# Altium schematic symbol library aKaReZa75-Connector.SchLib: 134 symbols (part 2 of 2)
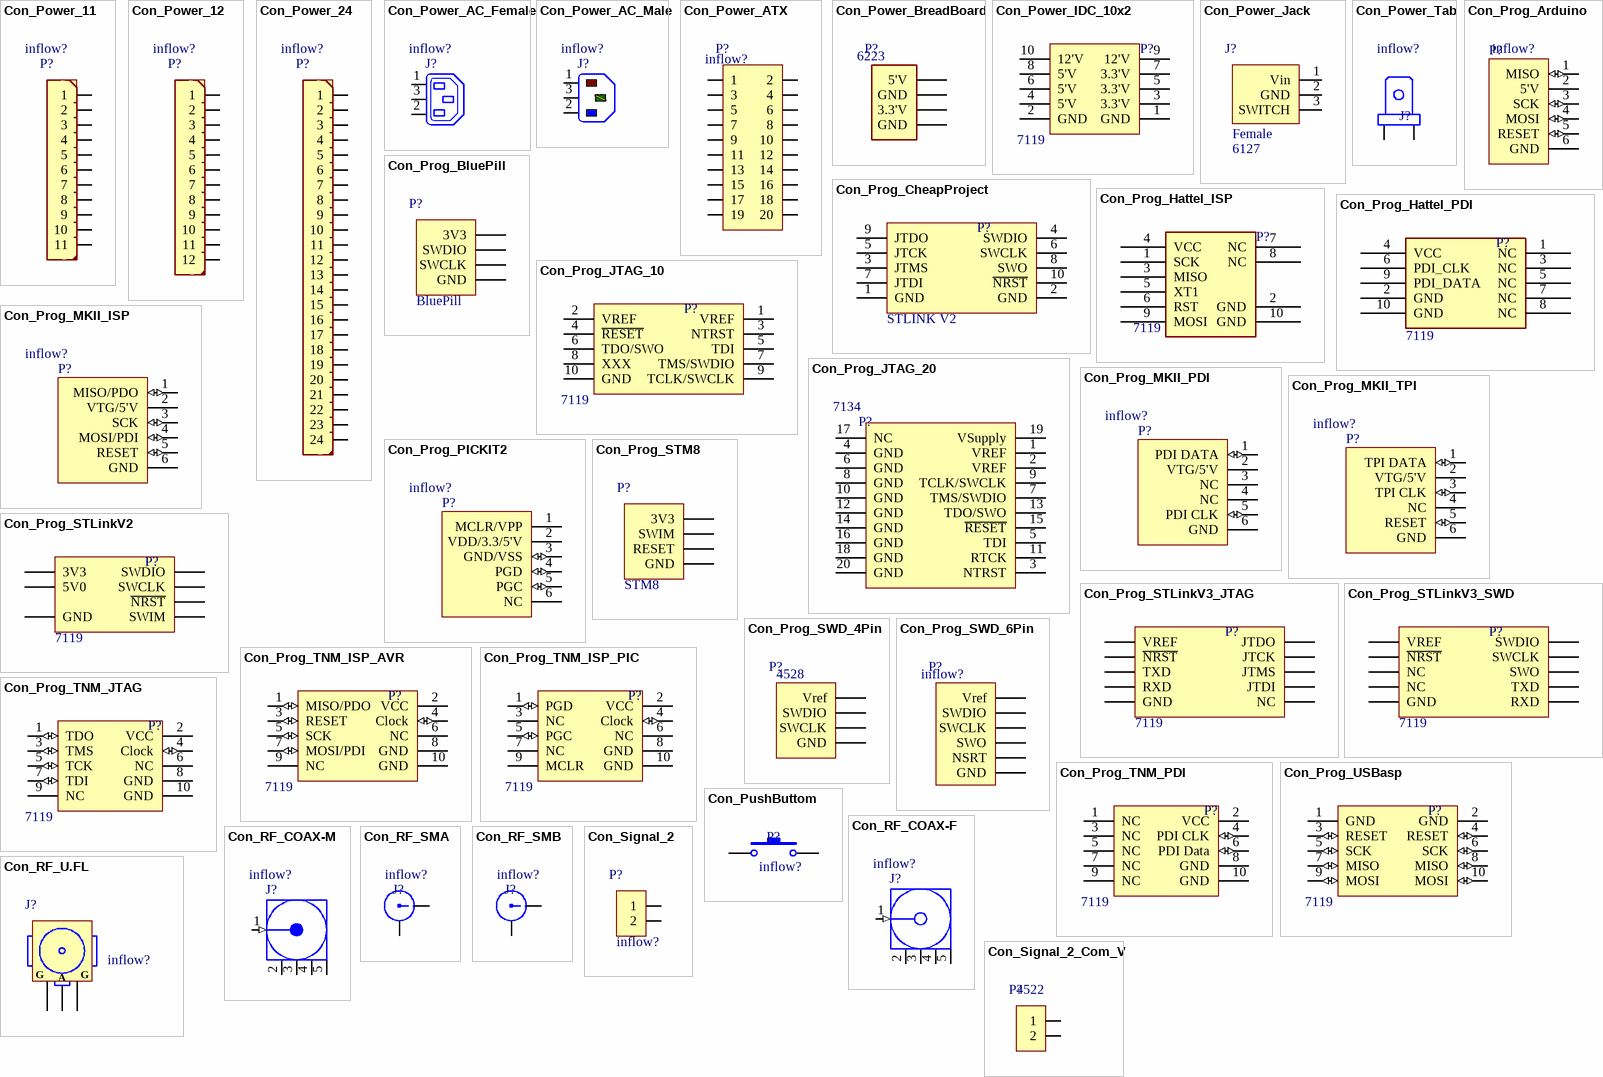
[diagram p4: symbols Con_Power_11 to Con_Signal_2_Com_V]

## Con_Prog_MKII_TPI
designator P?, comment Inflow: inflow?  (hidden comment: 3x2)
6 Pin Standard TPI Header For MKII; Rating: Rating?; Validation: NT; Value: 3x2; Package: Package?; Type: Type?
footprint IDC_2X3
pins: 1 TPI DATA (io), 2 VTG/5'V, 3 TPI CLK (io), 4 NC, 5 RESET (io), 6 GND

## Con_Prog_PICKIT2
designator P?, comment Inflow: inflow?  (hidden comment: 3x2)
6 Pin Standard ISP Header For PICKitII; Rating: Rating?; Validation: NT; Value: 3x2; Package: Package?; Type: Type?
footprint SILFKV6S
pins: 1 MCLR/VPP, 2 VDD/3.3/5'V, 3 GND/VSS (io), 4 PGD (io), 5 PGC (io), 6 NC

## Con_Prog_STLinkV2
designator P?, comment Inflow: 7119  (hidden comment: STLinkV2)
STLINK-V2 debugger/programmer IDC probe for STM32 microcontrollers; Rating: Rating?; Validation: NT; Value: STLinkV2; Package: Package?; Type: SWD
footprint 918510x324 (Connector; IDC, Low Profile Male Header, Thru-Hole; 10 Position; Vertical; Pitch 2.54 mm; Body 20.32 x 9.2 x 9.45 mm (LxWxH))
footprint 918510x323 (Connector; IDC, Low Profile Male Header, Thru-Hole; 10 Position; Right Angle; Pitch 2.54 mm; Body 20.32 x 8.9 x 9.2 mm (LxWxH))
footprint IDC2.54-10PIN (Connector; IDC, Low Profile Male Header, Thru-Hole; 10 Position; Vertical; Pitch 2.54 mm; 20.32 x 9.2 x 9.45 mm (LxWxH) DESIGNER : ABBAS BASEREH)
footprint IDC2.54-10PIN - CROSS (Connector; IDC, Low Profile Male Header, Thru-Hole; 10 Position; Vertical; Pitch 2.54 mm; 20.32 x 9.2 x 9.45 mm (LxWxH) DESIGNER : ABBAS BASEREH)
footprint IDC2.54-H10C (Connector; IDC, Low Profile Male Header, Thru-Hole; 10 Position; Right Angle; Pitch 2.54 mm; Body 20.32 x 8.9 x 9.2 mm (LxWxH))
pins: 1 ~{NRST}, 2 SWCLK, 3 SWIM "Pull_Down_10K'Ohm", 4 SWDIO, 5,6 GND, 7,8 3V3 (power), 9,10 5V0 (power)

## Con_Prog_STLinkV3_JTAG
designator P?, comment Inflow: 7119  (hidden comment: STLinkV3-minie)
STLINK-V3MINIE debugger/programmer IDC probe for STM32 microcontrollers; Rating: Rating?; Validation: NT; Value: STLinkV3-minie; Package: Package?; Type: JTAG
footprint 918510x324 (Connector; IDC, Low Profile Male Header, Thru-Hole; 10 Position; Vertical; Pitch 2.54 mm; Body 20.32 x 9.2 x 9.45 mm (LxWxH))
footprint 918510x323 (Connector; IDC, Low Profile Male Header, Thru-Hole; 10 Position; Right Angle; Pitch 2.54 mm; Body 20.32 x 8.9 x 9.2 mm (LxWxH))
footprint IDC2.54-10PIN (Connector; IDC, Low Profile Male Header, Thru-Hole; 10 Position; Vertical; Pitch 2.54 mm; 20.32 x 9.2 x 9.45 mm (LxWxH) DESIGNER : ABBAS BASEREH)
footprint IDC2.54-10PIN - CROSS (Connector; IDC, Low Profile Male Header, Thru-Hole; 10 Position; Vertical; Pitch 2.54 mm; 20.32 x 9.2 x 9.45 mm (LxWxH) DESIGNER : ABBAS BASEREH)
footprint IDC2.54-H10C (Connector; IDC, Low Profile Male Header, Thru-Hole; 10 Position; Right Angle; Pitch 2.54 mm; Body 20.32 x 8.9 x 9.2 mm (LxWxH))
pins: 1 NC "Pull_Down_10K'Ohm", 2 GND, 3 JTDI, 4 TXD, 5 JTMS "Pull_Down_10K'Ohm", 6 RXD, 7 JTCK, 8 ~{NRST}, 9 JTDO, 10 VREF

## Con_Prog_STLinkV3_SWD
designator P?, comment Inflow: 7119  (hidden comment: STLinkV3-minie)
STLINK-V3MINIE debugger/programmer IDC probe for STM32 microcontrollers; Rating: Rating?; Validation: Valid; Value: STLinkV3-minie; Package: 10p; Type: SWD
footprint 918510x324 (Connector; IDC, Low Profile Male Header, Thru-Hole; 10 Position; Vertical; Pitch 2.54 mm; Body 20.32 x 9.2 x 9.45 mm (LxWxH))
footprint 918510x323 (Connector; IDC, Low Profile Male Header, Thru-Hole; 10 Position; Right Angle; Pitch 2.54 mm; Body 20.32 x 8.9 x 9.2 mm (LxWxH))
footprint IDC2.54-10PIN (Connector; IDC, Low Profile Male Header, Thru-Hole; 10 Position; Vertical; Pitch 2.54 mm; 20.32 x 9.2 x 9.45 mm (LxWxH) DESIGNER : ABBAS BASEREH)
footprint IDC2.54-10PIN - CROSS (Connector; IDC, Low Profile Male Header, Thru-Hole; 10 Position; Vertical; Pitch 2.54 mm; 20.32 x 9.2 x 9.45 mm (LxWxH) DESIGNER : ABBAS BASEREH)
footprint IDC2.54-H10C (Connector; IDC, Low Profile Male Header, Thru-Hole; 10 Position; Right Angle; Pitch 2.54 mm; Body 20.32 x 8.9 x 9.2 mm (LxWxH))
footprint HDR_THT_5x2F_2.54mm_RA (Socket Header, Pitch 2.54 mm, THT, Angled, dual row, 10p)
pins: 1 NC "Pull_Down_10K'Ohm", 2 GND, 3 NC, 4 TXD, 5 SWDIO "Pull_Down_10K'Ohm", 6 RXD, 7 SWCLK, 8 ~{NRST}, 9 SWO, 10 VREF

## Con_Prog_STM8
designator P?, comment STM8
STM8 Programmer Connector; Rating: Rating?; Validation: NT; Inflow: 4528; Package: Package?; Type: Type?; Value: STM8
footprint MOLEX KK 0022272041
footprint JST XH B4B-XH-A
footprint JST XH B4B-XH-A - RIGHT
footprint HDR 1X4 (Connector; Header; 4 Position)
footprint Molex sda-70553-4pin (SL Right Angle Header W/LAtch & Trip-Pegs 2.54mm Centres)
pins: 1 3V3, 2 SWIM, 3 GND, 4 RESET

## Con_Prog_SWD_4Pin
designator P?, comment Inflow: 4528  (hidden comment: 4'Pin)
Serial Wire 4'pin; Rating: Rating?; Validation: NT; Value: 4'Pin; Package: Package?; Type: Type?
footprint MOLEX KK 0022272041
footprint JST XH B4B-XH-A
footprint JST XH B4B-XH-A - RIGHT
footprint HDR 1X4 (Connector; Header; 4 Position)
footprint Molex sda-70553-4pin (SL Right Angle Header W/LAtch & Trip-Pegs 2.54mm Centres)
pins: 1 Vref, 2 SWDIO, 3 SWCLK, 4 GND

## Con_Prog_SWD_6Pin
designator P?, comment Inflow: inflow?  (hidden comment: 6'Pin)
Serial Wire 6'pin; Rating: Rating?; Validation: NT; Value: 6'Pin; Package: Package?; Type: Type?
footprint JST XH B6B-XH-A
footprint JST XH B6B-XH-A - RIGHT
footprint HDR 1X6 (Connector; Header; 6 Position)
footprint MOLEX KK 0022272061
pins: 1 Vref, 2 SWDIO, 3 SWCLK, 4 GND, 5 SWO, 6 NSRT

## Con_Prog_TNM_ISP_AVR
designator P?, comment Inflow: 7119  (hidden comment: JTAG, 10'Pin)
10 Pin Standard ISP Header For TNM; Rating: Rating?; Validation: Valid; Value: JTAG, 10'Pin; Package: Package?; Type: Type?
footprint 918510x324 (Connector; IDC, Low Profile Male Header, Thru-Hole; 10 Position; Vertical; Pitch 2.54 mm; Body 20.32 x 9.2 x 9.45 mm (LxWxH))
footprint 918510x323 (Connector; IDC, Low Profile Male Header, Thru-Hole; 10 Position; Right Angle; Pitch 2.54 mm; Body 20.32 x 8.9 x 9.2 mm (LxWxH))
footprint IDC2.54-10PIN (Connector; IDC, Low Profile Male Header, Thru-Hole; 10 Position; Vertical; Pitch 2.54 mm; 20.32 x 9.2 x 9.45 mm (LxWxH) DESIGNER : ABBAS BASEREH)
footprint IDC2.54-10PIN - CROSS (Connector; IDC, Low Profile Male Header, Thru-Hole; 10 Position; Vertical; Pitch 2.54 mm; 20.32 x 9.2 x 9.45 mm (LxWxH) DESIGNER : ABBAS BASEREH)
footprint IDC2.54-10PIN WITH CABLE (Connector; IDC, Low Profile Male Header, Thru-Hole; 10 Position; Vertical; Pitch 2.54 mm; 20.32 x 9.2 x 9.45 mm (LxWxH) DESIGNER : ABBAS BASEREH)
footprint IDC2.54-H10C (Connector; IDC, Low Profile Male Header, Thru-Hole; 10 Position; Right Angle; Pitch 2.54 mm; Body 20.32 x 8.9 x 9.2 mm (LxWxH))
pins: 1 MISO/PDO (io), 2 VCC (power) "TNM 5000", 3 RESET (io), 4 Clock (io) "TNM 5000", 5 SCK (io), 6 NC, 7 MOSI/PDI (io), 8 GND (power), 9 NC, 10 GND (power)

## Con_Prog_TNM_ISP_PIC
designator P?, comment Inflow: 7119  (hidden comment: JTAG, 10'Pin)
10 Pin Standard ISP Header For TNM; Rating: Rating?; Validation: NT; Value: JTAG, 10'Pin; Package: Package?; Type: Type?
footprint 918510x324 (Connector; IDC, Low Profile Male Header, Thru-Hole; 10 Position; Vertical; Pitch 2.54 mm; Body 20.32 x 9.2 x 9.45 mm (LxWxH))
footprint 918510x323 (Connector; IDC, Low Profile Male Header, Thru-Hole; 10 Position; Right Angle; Pitch 2.54 mm; Body 20.32 x 8.9 x 9.2 mm (LxWxH))
footprint IDC2.54-10PIN (Connector; IDC, Low Profile Male Header, Thru-Hole; 10 Position; Vertical; Pitch 2.54 mm; 20.32 x 9.2 x 9.45 mm (LxWxH) DESIGNER : ABBAS BASEREH)
footprint IDC2.54-10PIN - CROSS (Connector; IDC, Low Profile Male Header, Thru-Hole; 10 Position; Vertical; Pitch 2.54 mm; 20.32 x 9.2 x 9.45 mm (LxWxH) DESIGNER : ABBAS BASEREH)
footprint IDC2.54-10PIN WITH CABLE (Connector; IDC, Low Profile Male Header, Thru-Hole; 10 Position; Vertical; Pitch 2.54 mm; 20.32 x 9.2 x 9.45 mm (LxWxH) DESIGNER : ABBAS BASEREH)
footprint IDC2.54-H10C (Connector; IDC, Low Profile Male Header, Thru-Hole; 10 Position; Right Angle; Pitch 2.54 mm; Body 20.32 x 8.9 x 9.2 mm (LxWxH))
pins: 1 PGD (io), 2 VCC (power) "TNM 5000", 3 NC, 4 Clock (io) "TNM 5000", 5 PGC (io), 6 NC, 7 NC, 8 GND (power), 9 MCLR, 10 GND (power)

## Con_Prog_TNM_JTAG
designator P?, comment Inflow: 7119  (hidden comment: JTAG, 10'Pin)
10 Pin Standard JTAG Header For TNM; Rating: Rating?; Validation: NT; Value: JTAG, 10'Pin; Package: Package?; Type: Type?
footprint 918510x324 (Connector; IDC, Low Profile Male Header, Thru-Hole; 10 Position; Vertical; Pitch 2.54 mm; Body 20.32 x 9.2 x 9.45 mm (LxWxH))
footprint 918510x323 (Connector; IDC, Low Profile Male Header, Thru-Hole; 10 Position; Right Angle; Pitch 2.54 mm; Body 20.32 x 8.9 x 9.2 mm (LxWxH))
footprint IDC2.54-10PIN (Connector; IDC, Low Profile Male Header, Thru-Hole; 10 Position; Vertical; Pitch 2.54 mm; 20.32 x 9.2 x 9.45 mm (LxWxH) DESIGNER : ABBAS BASEREH)
footprint IDC2.54-10PIN - CROSS (Connector; IDC, Low Profile Male Header, Thru-Hole; 10 Position; Vertical; Pitch 2.54 mm; 20.32 x 9.2 x 9.45 mm (LxWxH) DESIGNER : ABBAS BASEREH)
footprint IDC2.54-10PIN WITH CABLE (Connector; IDC, Low Profile Male Header, Thru-Hole; 10 Position; Vertical; Pitch 2.54 mm; 20.32 x 9.2 x 9.45 mm (LxWxH) DESIGNER : ABBAS BASEREH)
footprint IDC2.54-H10C (Connector; IDC, Low Profile Male Header, Thru-Hole; 10 Position; Right Angle; Pitch 2.54 mm; Body 20.32 x 8.9 x 9.2 mm (LxWxH))
pins: 1 TDO (io), 2 VCC (power) "TNM 5000", 3 TMS (io), 4 Clock (io) "TNM 5000", 5 TCK (io), 6 NC, 7 TDI (io), 8 GND (power), 9 NC, 10 GND (power)

## Con_Prog_TNM_PDI
designator P?, comment Inflow: 7119  (hidden comment: JTAG, 10'Pin)
10 Pin Standard ISP Header For TNM Only TNM 5000; Rating: Rating?; Validation: NT; Value: JTAG, 10'Pin; Package: Package?; Type: Type?
footprint 918510x324 (Connector; IDC, Low Profile Male Header, Thru-Hole; 10 Position; Vertical; Pitch 2.54 mm; Body 20.32 x 9.2 x 9.45 mm (LxWxH))
footprint 918510x323 (Connector; IDC, Low Profile Male Header, Thru-Hole; 10 Position; Right Angle; Pitch 2.54 mm; Body 20.32 x 8.9 x 9.2 mm (LxWxH))
footprint IDC2.54-10PIN (Connector; IDC, Low Profile Male Header, Thru-Hole; 10 Position; Vertical; Pitch 2.54 mm; 20.32 x 9.2 x 9.45 mm (LxWxH) DESIGNER : ABBAS BASEREH)
footprint IDC2.54-10PIN - CROSS (Connector; IDC, Low Profile Male Header, Thru-Hole; 10 Position; Vertical; Pitch 2.54 mm; 20.32 x 9.2 x 9.45 mm (LxWxH) DESIGNER : ABBAS BASEREH)
footprint IDC2.54-10PIN WITH CABLE (Connector; IDC, Low Profile Male Header, Thru-Hole; 10 Position; Vertical; Pitch 2.54 mm; 20.32 x 9.2 x 9.45 mm (LxWxH) DESIGNER : ABBAS BASEREH)
footprint IDC2.54-H10C (Connector; IDC, Low Profile Male Header, Thru-Hole; 10 Position; Right Angle; Pitch 2.54 mm; Body 20.32 x 8.9 x 9.2 mm (LxWxH))
pins: 1 NC, 2 VCC (power) "TNM 5000", 3 NC, 4 PDI CLK (io) "TNM 5000", 5 NC, 6 PDI Data (io) "TNM 5000", 7 NC, 8 GND (power), 9 NC, 10 GND (power)

## Con_Prog_USBasp
designator P?, comment Inflow: 7119  (hidden comment: JTAG, 10'Pin)
10 Pin Standard ISP Header For TNM; Rating: Rating?; Validation: Valid; Value: JTAG, 10'Pin; Package: Package?; Type: Type?
footprint 918510x324 (Connector; IDC, Low Profile Male Header, Thru-Hole; 10 Position; Vertical; Pitch 2.54 mm; Body 20.32 x 9.2 x 9.45 mm (LxWxH))
footprint 918510x323 (Connector; IDC, Low Profile Male Header, Thru-Hole; 10 Position; Right Angle; Pitch 2.54 mm; Body 20.32 x 8.9 x 9.2 mm (LxWxH))
footprint IDC2.54-10PIN (Connector; IDC, Low Profile Male Header, Thru-Hole; 10 Position; Vertical; Pitch 2.54 mm; 20.32 x 9.2 x 9.45 mm (LxWxH) DESIGNER : ABBAS BASEREH)
footprint IDC2.54-10PIN - CROSS (Connector; IDC, Low Profile Male Header, Thru-Hole; 10 Position; Vertical; Pitch 2.54 mm; 20.32 x 9.2 x 9.45 mm (LxWxH) DESIGNER : ABBAS BASEREH)
footprint IDC2.54-10PIN WITH CABLE (Connector; IDC, Low Profile Male Header, Thru-Hole; 10 Position; Vertical; Pitch 2.54 mm; 20.32 x 9.2 x 9.45 mm (LxWxH) DESIGNER : ABBAS BASEREH)
footprint IDC2.54-H10C (Connector; IDC, Low Profile Male Header, Thru-Hole; 10 Position; Right Angle; Pitch 2.54 mm; Body 20.32 x 8.9 x 9.2 mm (LxWxH))
pins: 1 GND, 2 GND, 3 RESET (io), 4 RESET (io), 5 SCK (io), 6 SCK (io), 7 MISO (io), 8 MISO (io), 9 MOSI (io), 10 MOSI (io)

## Con_PushButtom
designator P?, comment Inflow: inflow?  (hidden comment: Value?)
PushBottom Connector 2'Pin; Rating: Rating?; Validation: Valid; Value: Value?; Type: PushButtom; Package: Dip
footprint MOLEX KK 0022272021
footprint JST XH B2B-XH-A
footprint JST XH B2B-XH-A - RIGHT
footprint HDR 1X2 (Connector; Header; 2 Position)
footprint Molex sda-70553-2pin (SL Right angle header with latch, 0.100 centres, SDA-70553)
footprint SMD 2PIN_CON
pins: 1, 2

## Con_RF_COAX-F
designator J?, comment Inflow: inflow?  (hidden comment: Female)
RF Coaxial PCB Connector, MCX; Thru-Hole, Right-Angle Mount Socket, Blunt Post Terminal, 50 Ohm Impedance; Rating: Rating?; Validation: NT; Value: Female; Package: Package?; Type: Type?
footprint MCX5.08-H5 (Connector; RF Coaxial, MCX, Thru-Hole; 5 Position; Right-Angle)
pins: 1 Signal (in) "Signal Pin", 2 GND (power), 3 GND (power), 4 GND (power), 5 GND (power)

## Con_RF_COAX-M
designator J?, comment Inflow: inflow?  (hidden comment: Male)
RF Coaxial PCB Connector, MMCX; Thru-Hole, Vertical Mount Plug,  50 Ohm Impedance; Rating: Rating?; Validation: NT; Value: Male; Package: Package?; Type: Type?
footprint MMCX2.54-V5 (Connector; RF Coaxial, MMCX, Thru-Hole; 5 Position; Vertical)
pins: 1 Signal (in) "Signal Pin", 2 GND (power), 3 GND (power), 4 GND (power), 5 GND (power)

## Con_RF_SMA
designator J?, comment Inflow: inflow?  (hidden comment: SMA)
SMA High Frequency Conector; Rating: Rating?; Validation: NT; Value: SMA; Package: Package?; Type: Type?
footprint DIP_CON_SMA-Vertical
footprint SMA
pins: 1, 2

## Con_RF_SMB
designator J?, comment Inflow: inflow?  (hidden comment: SMB)
SMB High Frequency Conector; Rating: Rating?; Validation: NT; Value: SMB; Package: Package?; Type: Type?
footprint DIP_CON_SMB-Vertical
pins: 1, 2

## Con_RF_U.FL
designator J?, comment Inflow: inflow?  (hidden comment: U.FL)
Rating: Rating?; Validation: Valid; Type: RF; Package: SMD; Value: U.FL
footprint IPEX-3x3mm (U.FL-R-SMT)
pins: 1 A, 2 G, 3 G

## Con_Signal_2
designator P?, comment Inflow: inflow?  (hidden comment: 2b)
Signal Connector 2'Pin; Rating: Rating?; Validation: Valid; Package: Dip; Type: Signal; Value: 2b
footprint MOLEX KK 0022272021
footprint JST XH B2B-XH-A
footprint JST XH B2B-XH-A - RIGHT
footprint HDR 1X2 (Connector; Header; 2 Position)
footprint Molex sda-70553-2pin (SL Right angle header with latch, 0.100 centres, SDA-70553)
pins: 1, 2

## Con_Signal_2_Com_V
designator P?, comment Inflow: 4522  (hidden comment: 2'Pin)
Communication signal connector 2'Pin; Rating: Rating?; Validation: Valid; Value: 2'Pin; Package: Package?; Type: Type?
footprint MOLEX KK 0022272021
pins: 1, 2

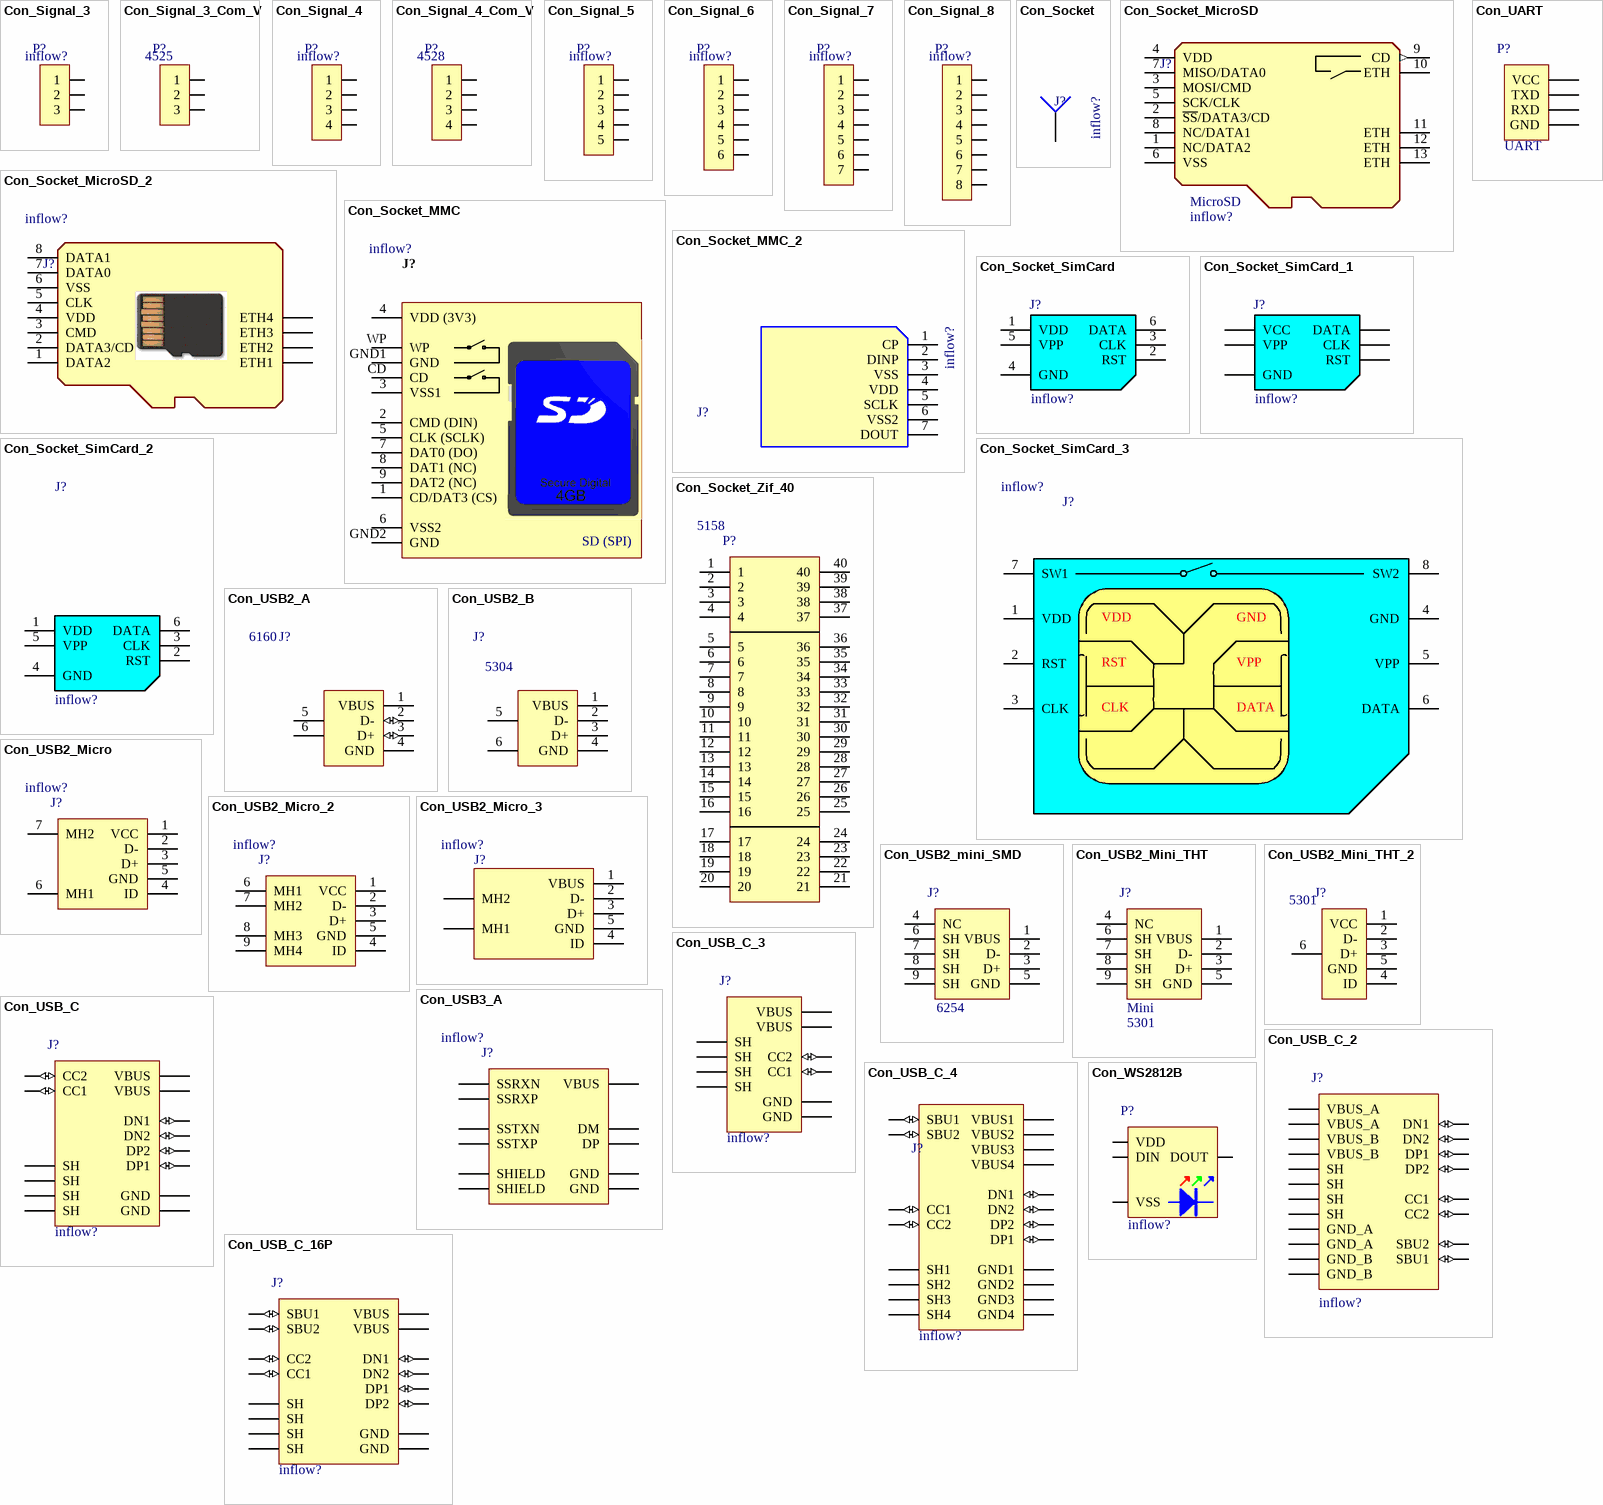
[diagram p3: symbols Con_Signal_3 to Con_WS2812B]

## Con_Signal_3
designator P?, comment Inflow: inflow?  (hidden comment: 3'Pin)
Signal Connector 3'Pin; Rating: Rating?; Validation: Valid; Value: 3'Pin; Package: Package?; Type: Type?
footprint MOLEX KK 0022272031
footprint JST XH B3B-XH-A
footprint JST XH B3B-XH-A - RIGHT
footprint HDR 1X3 (Connector; Header; 3 Position)
footprint Molex sda-70553-3pin (SL Right Angle Header W/LAtch & Trip-Pegs 2.54mm Centres)
pins: 1, 2, 3

## Con_Signal_3_Com_V
designator P?, comment Inflow: 4525  (hidden comment: 3'Pin)
Communication signal connector 3'Pin; Rating: Rating?; Validation: Valid; Value: 3'Pin; Package: Package?; Type: Type?
footprint MOLEX KK 0022272031
pins: 1, 2, 3

## Con_Signal_4
designator P?, comment Inflow: inflow?  (hidden comment: 4'Pin)
Signal Connector 4'Pin; Rating: Rating?; Validation: Valid; Value: 4'Pin; Package: Package?; Type: Type?
footprint MOLEX KK 0022272041
footprint JST XH B4B-XH-A
footprint JST XH B4B-XH-A - RIGHT
footprint HDR 1X4 (Connector; Header; 4 Position)
footprint Molex sda-70553-4pin (SL Right Angle Header W/LAtch & Trip-Pegs 2.54mm Centres)
pins: 1, 2, 3, 4

## Con_Signal_4_Com_V
designator P?, comment Inflow: 4528  (hidden comment: 4'Pin)
Communication signal connector 4'Pin; Rating: Rating?; Validation: Valid; Value: 4'Pin; Package: Package?; Type: Type?
footprint MOLEX KK 0022272041
pins: 1, 2, 3, 4

## Con_Signal_5
designator P?, comment Inflow: inflow?  (hidden comment: 5'Pin)
Signal Connector 5'Pin; Rating: Rating?; Validation: Valid; Value: 5'Pin; Package: Package?; Type: Type?
footprint MOLEX KK 0022272051
footprint JST XH B5B-XH-A
footprint JST XH B5B-XH-A - RIGHT
footprint HDR 1X5 (Connector; Header; 5 Position)
pins: 1, 2, 3, 4, 5

## Con_Signal_6
designator P?, comment Inflow: inflow?  (hidden comment: 6'Pin)
Signal Connector 6'Pin; Rating: Rating?; Validation: Valid; Value: 6'Pin; Package: Package?; Type: Type?
footprint JST XH B6B-XH-A
footprint JST XH B6B-XH-A - RIGHT
footprint HDR 1X6 (Connector; Header; 6 Position)
footprint MOLEX KK 0022272061
pins: 1, 2, 3, 4, 5, 6

## Con_Signal_7
designator P?, comment Inflow: inflow?  (hidden comment: 7'Pin)
Signal Connector 7'Pin; Rating: Rating?; Validation: Valid; Value: 7'Pin; Package: Package?; Type: Type?
footprint JST XH B7B-XH-A
footprint JST XH B7B-XH-A - RIGHT
footprint MOLEX KK 0022272071
pins: 1, 2, 3, 4, 5, 6, 7

## Con_Signal_8
designator P?, comment Inflow: inflow?  (hidden comment: 8'Pin)
Signal Connector 8'Pin; Rating: Rating?; Validation: Valid; Value: 8'Pin; Package: Package?; Type: Type?
footprint JST XH B8B-XH-A
footprint JST XH B8B-XH-A - RIGHT
footprint MOLEX KK 0022272081
pins: 1, 2, 3, 4, 5, 6, 7, 8

## Con_Socket
designator J?, comment Inflow: inflow?  (hidden comment: Socket)
Rating: Rating?; Validation: NT; Value: Socket; Package: Package?; Type: Type?
footprint PIN1 (Connector; Socket)
pins: 1

## Con_Socket_MicroSD
designator J?, comment Inflow: inflow?  (hidden comment: MicroSD)
T-Flash 8pin SMT; Rating: Rating?; Validation: Valid; Package: SMD; Type: Type?; Value: MicroSD
footprint TFWF1-EBXX-1X0X (T-FLASH PUSH-PUSH)
pins: 1 NC/DATA2, 2 ~{SS}/DATA3/CD, 3 MOSI/CMD, 4 VDD, 5 SCK/CLK, 6 VSS, 7 MISO/DATA0, 8 NC/DATA1, 9 CD (out), 10 ETH, 11 ETH, 12 ETH, 13 ETH
text: Card Bottom View

## Con_Socket_MicroSD_2
designator J?, comment Inflow: inflow?  (hidden comment: MicroSD)
T-Flash 8pin SMT; Rating: Rating?; Validation: NT; Value: MicroSD; Package: Package?; Type: Type?
footprint R5190008-X49-R (Footprint not found)
pins: 1 DATA2, 2 DATA3/CD, 3 CMD, 4 VDD, 5 CLK, 6 VSS, 7 DATA0, 8 DATA1, ETH1, ETH2, ETH3, ETH4
text: Card Bottom View

## Con_Socket_MMC
designator J?, comment Inflow: inflow?  (hidden comment: MMC)
Secure Digital Card Socket; Rating: Rating?; Validation: NT; Value: MMC; Package: Package?; Type: Type?
footprint SMD_SOCKET_SD (KSDC012551)
footprint SMD_SOCKET_MMC
footprint SMD_SOCKET_MMC_2
pins: 1 CD/DAT3 (CS), 2 CMD (DIN), 3 VSS1 (power), 4 VDD (3V3) (power), 5 CLK (SCLK), 6 VSS2 (power), 7 DAT0 (DO), 8 DAT1 (NC), 9 DAT2 (NC), CD, GND1 GND (power), GND2 GND (power), WP
text: SD (SPI)

## Con_Socket_MMC_2
designator J?, comment Inflow: inflow?  (hidden comment: MMC)
MMC connector; Rating: Rating?; Validation: NT; Value: MMC; Package: Package?; Type: Type?
footprint MMC
pins: 1 CP, 2 DINP, 3 VSS, 4 VDD, 5 SCLK, 6 VSS2, 7 DOUT

## Con_Socket_SimCard
designator J?, comment Inflow: inflow?  (hidden comment: 6'Pin)
SimCard Holder 6P; Rating: Rating?; Validation: Valid; Package: SMD; Type: Standard; Value: 6'Pin
footprint SIMCARD_HOLDER_6P (SimCard Connector, 6Pin ,Body 29.7 x 17.2 mm)
pins: 1 VDD, 2 RST, 3 CLK, 4 GND, 5 VPP, 6 DATA
2 alternate drawings of the same symbol

## Con_Socket_SimCard_1
designator J?, comment Inflow: inflow?  (hidden comment: 6'Pin)
Nano SimCard Holder 6P; Rating: Rating?; Validation: Valid; Package: SMD; Type: Nano; Value: 6'Pin
footprint GCT_SIM8051
footprint GCT_SIM8051_Plastik
pins: 1 VCC, 2 RST, 3 CLK, 4 DATA, 5 GND, 6 VPP

## Con_Socket_SimCard_2
designator J?, comment Inflow: inflow?  (hidden comment: 6'Pin)
SimCard connector; Rating: Rating?; Validation: NT; Type: Micro; Value: 6'Pin; Package: SMD
footprint SIM HOLDER 2
pins: 1 VDD, 2 RST, 3 CLK, 4 GND, 5 VPP, 6 DATA

## Con_Socket_SimCard_3
designator J?  Inflow: inflow?
SimCard Holder 9P; Value: 9'Pin; Rating: Rating?; Validation: NT; Package: Package?; Type: Type?
footprint SIMCARD_HOLDER_8L (Simcard holder)
pins: 1 VDD, 2 RST, 3 CLK, 4 GND, 5 VPP, 6 DATA, 7 SW1, 8 SW2

## Con_Socket_Zif_40
designator P?, comment Inflow: 5158  (hidden comment: 40'Pin)
40pin Zip/Zif Socket; Rating: Rating?; Validation: NT; Value: 40'Pin; Package: Package?; Type: Type?
footprint DIP40 - Zip Socket
pins: 1, 2, 3, 4, 5, 6, 7, 8, 9, 10, 11, 12, 13, 14, 15, 16, 17, 18, 19, 20, 21, 22, 23, 24, 25, 26, 27, 28, 29, 30, 31, 32, 33, 34, 35, 36, 37, 38, 39, 40

## Con_UART
designator P?, comment UART
UART Connector; Rating: Rating?; Validation: Valid; Inflow: 4528; Package: Package?; Type: Type?; Value: UART
footprint MOLEX KK 0022272041
footprint JST XH B4B-XH-A
footprint JST XH B4B-XH-A - RIGHT
footprint HDR 1X4 (Connector; Header; 4 Position)
footprint Molex sda-70553-4pin (SL Right Angle Header W/LAtch & Trip-Pegs 2.54mm Centres)
pins: 1 VCC, 2 TXD, 3 RXD, 4 GND

## Con_USB2_A
designator J?, comment Inflow: 6160  (hidden comment: Type A)
USB Connector-A Type; Rating: Rating?; Validation: NT; Value: Type A; Package: Package?; Type: Type?
footprint USB2.5-2H4C (Connector; USB1.1, Type A, Thru-Hole; 4 Position; Right Angle)
footprint USB2.5-2V4A (Connector; USB1.1, Type A, Thru-Hole; 4 Position; Vertical)
footprint USB/SM2.5-4H4 (Connector; USB1.1, Type A, SM; 4 Position; Right Angle)
footprint USB/SM2.5-4H4A (Connector; USB1.1, Type A, SM; 4 Position; Right Angle)
footprint USB2.0-4H4 (Connector; USB1.1, Type A, Thru-Hole; 4 Position; Right Angle)
footprint USB A TYPE Right Angle (Connector; USB1.1, Type A, SM; 4 Position; Right Angle DESIGNER ABBAS BASEREH)
footprint USB_A_REC_RA_THD (CONN, USB A, Receptacle, RIGHT ANGLE, THD)
footprint USB_A_REC_ST (CONN, USB A, Receptacle, STRAIGHT, THD)
pins: 1 VBUS (power), 2 D- (io), 3 D+ (io), 4 GND (power), 5 MH (power), 6 MH (power)
3 alternate drawings of the same symbol

## Con_USB2_B
designator J?, comment Inflow: 5304  (hidden comment: Type B)
USB Connector-B Type; Rating: Rating?; Validation: Valid; Value: Type B; Package: Package?; Type: Type?
footprint USB2.5-2H4D (Connector; USB1.1, Type B, Thru-Hole; 4 Position; Right Angle)
footprint USB2.5-2H4E (Connector; USB1.1, Type B, Thru-Hole; 4 Position; Right Angle)
footprint USB2.5-2H4F (Connector; USB1.1, Type B, Thru-Hole; 4 Position; Right Angle)
footprint USB2.5-2H4G (Connector; USB1.1, Type B, Thru-Hole; 4 Position; Right Angle)
footprint USB2.5-2V4 (Connector; USB1.1, Type B, Thru-Hole; 4 Position; Vertical)
footprint USB2.5-4V4 (Connector; USB1.1, Type B, Thru-Hole; 4 Position; Vertical)
footprint USB/SM1.25-4H4 (Connector; USB1.1, Type B, SM; 4 Position; Right Angle)
pins: 1 VBUS (power), 2 D-, 3 D+, 4 GND (power), 5, 6

## Con_USB2_Micro
designator J?, comment Inflow: inflow?  (hidden comment: Micro)
USB micro female; Rating: Rating?; Validation: Valid; Value: Micro; Package: Package?; Type: Type?
footprint USB_Micro_Reverse (Micro USB Dock 5 Pin Reverse)
footprint USB_Micro_Standard (Micro USB Dock 5 Pin Standard)
pins: 1 VCC, 2 D-, 3 D+, 4 ID, 5 GND, 6 MH1, 7 MH2

## Con_USB2_Micro_2
designator J?, comment Inflow: inflow?  (hidden comment: Micro)
USB micro female SMT with 4 fixed foot; Rating: Rating?; Validation: NT; Value: Micro; Package: Package?; Type: Type?
footprint USB_MICRO_5S_B (USB Micro SMT 5S B)
footprint USB_MICRO_SMT_2PIN (USB MICRO SMT 2PIN)
pins: 1 VCC, 2 D-, 3 D+, 4 ID, 5 GND, 6 MH1, 7 MH2, 8 MH3, 9 MH4

## Con_USB2_Micro_3
designator J?, comment Inflow: inflow?  (hidden comment: Micro)
Female, 2 DIP Holder, 5 Pin contacts; Rating: Rating?; Validation: NT; Value: Micro; Package: Package?; Type: Type?
footprint MicroUSB (Shrink Small Outline, Plastic, Thin; 14 Leads; Body Width 4.4 mm; Pitch 0.65 mm)
pins: 1 VBUS (power), 2 D-, 3 D+, 4 ID, 5 GND, MH1, MH2

## Con_USB2_mini_SMD
designator J?, comment Inflow: 6254  (hidden comment: mini)
mini USB Connector; Rating: Rating?; Validation: Valid; Type: B; Package: SMD; Value: mini
footprint SMD_Mini USB Connector
pins: 1 VBUS (power), 2 D-, 3 D+, 4 NC (power), 5 GND (power), 6 SH, 7 SH, 8 SH, 9 SH

## Con_USB2_Mini_THT
designator J?, comment Inflow: 5301  (hidden comment: Mini)
mini USB Connector; Rating: Rating?; Validation: Valid; Package: Dip; Type: USB; Value: Mini
footprint mini USB Connector
footprint SMD_Mini USB Connector
footprint USB/SM0.8-6H5 (Connector; USB2.0, Type B, SM; 5 Position; Right Angle)
footprint USB_MINI1 (USB Mini SMT)
footprint mini B USB
pins: 1 VBUS (power), 2 D-, 3 D+, 4 NC (power), 5 GND (power), 6 SH, 7 SH, 8 SH, 9 SH

## Con_USB2_Mini_THT_2
designator J?, comment Inflow: 5301  (hidden comment: mini)
mini USB Connector; Rating: Rating?; Validation: Valid; Value: mini; Package: Package?; Type: Type?
footprint USB Mini Type-B Female V (USB Mini Type-B Female Vertical, Body 7.8X4mm)
pins: 1 VCC (power), 2 D-, 3 D+, 4 ID, 5 GND (power), 6 Hold

## Con_USB3_A
designator J?, comment Inflow: inflow?  (hidden comment: A)
USB3.0 Female Connector; Rating: Rating?; Validation: NT; Value: A; Package: Package?; Type: Type?
footprint USB3-A (USB3.0 Connector)
footprint GCT_USB1086-GF-B_REVA
pins: 1 VBUS, 2 DM, 3 DP, 4 GND, 5 SSRXN, 6 SSRXP, 7 GND, 8 SSTXN, 9 SSTXP, 10 SHIELD, 11 SHIELD

## Con_USB_C
designator J?, comment Inflow: inflow?  (hidden comment: 12b)
USB C Female Connector; Rating: Rating?; Validation: Valid; Value: 12b; Package: SMD; Type: C
footprint HRO_TYPE-C-31-M-12
footprint HRO_TYPE-C-31-M-12 - Extended
pins: A1_B12 GND (power), A4_B9 VBUS (power), A5 CC1 (io), A6 DP1 (io), A7 DN1 (io), B1_A12 GND (power), B4_A9 VBUS (power), B5 CC2 (io), B6 DP2 (io), B7 DN2 (io), S1 SH, S2 SH, S3 SH, S4 SH

## Con_USB_C_2
designator J?, comment Inflow: inflow?  (hidden comment: 16b)
USB C Female Connector; Rating: Rating?; Validation: Valid; Value: 16b; Package: SMD; Type: C
footprint VALCON_CSP-USC16-TR
pins: A1 GND_A (power), A4 VBUS_A (power), A5 CC1 (io), A6 DP1 (io), A7 DN1 (io), A8 SBU1 (io), A9 VBUS_A (power), A12 GND_A (power), B1 GND_B (power), B4 VBUS_B (power), B5 CC2 (io), B6 DP2 (io), B7 DN2 (io), B8 SBU2 (io), B9 VBUS_B (power), B12 GND_B (power), S1 SH (power), S2 SH (power), S3 SH (power), S4 SH (power)

## Con_USB_C_3
designator J?, comment Inflow: inflow?  (hidden comment: 6b)
USB C Female Connector; Rating: Rating?; Validation: Valid; Value: 6b; Package: SMD; Type: C
footprint GCT_USB4125-GF-A-0190_REVA2
pins: A5 CC1 (io), A9 VBUS (power), A12 GND (power), B5 CC2 (io), B9 VBUS (power), B12 GND (power), S1 SH, S2 SH, S3 SH, S4 SH

## Con_USB_C_4
designator J?, comment Inflow: inflow?  (hidden comment: 16b)
Universal Serial Bus (USB) Shielded I/O Receptacle, Type C, Vertical, Surface Mount, Height 6.40mm, 16 Circuits, Gold (Au) Plating; Rating: Rating?; Validation: Valid; Value: 16b; Package: SMD; Type: C
footprint MOLEX_2171820001
pins: A1 GND1 (power), A4 VBUS1 (power), A5 CC1 (io), A6 DP1 (io), A7 DN1 (io), A8 SBU1 (io), A9 VBUS2 (power), A12 GND2 (power), B1 GND3 (power), B4 VBUS3 (power), B5 CC2 (io), B6 DP2 (io), B7 DN2 (io), B8 SBU2 (io), B9 VBUS4 (power), B12 GND4 (power), SH1, SH2, SH3, SH4

## Con_USB_C_16P
designator J?, comment Inflow: inflow?  (hidden comment: 16b)
USB C Female Connector; Rating: Rating?; Validation: Valid; Value: 16b; Package: SMD; Type: C
footprint USBC_SMD_16_USB4110 (CONN, USB, Type C, USB4110)
footprint USBC_SMD_16_USB4110 - Extended (CONN, USB, Type C, USB4110)
pins: A1B12 GND (power), A4B9 VBUS (power), A5 CC1 (io), A6 DP1 (io), A7 DN1 (io), A8 SBU1 (io), B1A12 GND (power), B4A9 VBUS (power), B5 CC2 (io), B6 DP2 (io), B7 DN2 (io), B8 SBU2 (io), S1 SH (power), S2 SH (power), S3 SH (power), S4 SH (power)

## Con_WS2812B
designator P?, comment Inflow: inflow?  (hidden comment: WS2812)
WS2812 Addressable RGB; Rating: Rating?; Validation: NT; Value: WS2812; Package: Dip; Type: RGB
footprint MOLEX KK 0022272041
footprint JST XH B4B-XH-A
footprint JST XH B4B-XH-A - RIGHT
footprint HDR 1X4 (Connector; Header; 4 Position)
footprint Molex sda-70553-4pin (SL Right Angle Header W/LAtch & Trip-Pegs 2.54mm Centres)
pins: 1 VDD "Power supply LED", 2 DOUT "Control data signal output", 3 VSS "Ground", 4 DIN "Control data signal input"